# Altium footprint library SnapEDApcb.PcbLib: 1 footprints
Each footprint in its own frame and in the unit in brackets; x right, y up, seen from the top. Pads: shape width x height; smd on the part's side, far side on the other; paste and mask are expansions set on the pad; w line width, h text height; cw(c..) or ccw(c..) is an arc to the next point about the centre after c.
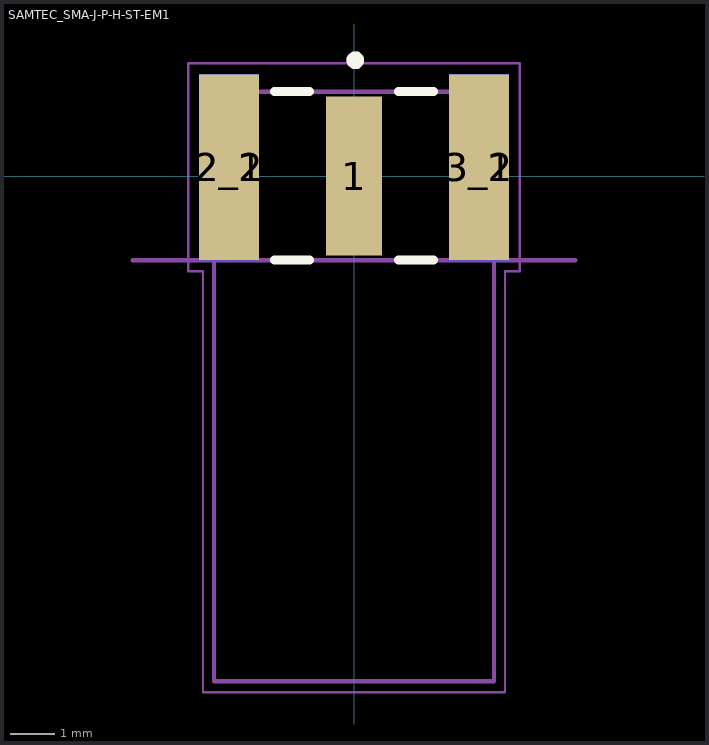
[diagram p0: the footprint, top view; thin cyan lines are the x and y axes]

## SAMTEC_SMA-J-P-H-ST-EM1 [mm]
pads (5):
  rect 1.27x3.6 smd: 1(0,0)
  rect 1.35x4.2 smd: 2_1(-2.825,0.2) 3_1(2.825,0.2)
  rect 1.35x4.2 smd far side: 2_2(-2.825,0.2) 3_2(2.825,0.2)
Top Overlay:
  circle w0.2: c0.03,2.62 r0.1
  lines w0.2: -1.8,-1.9 -1,-1.9 ; -1.8,1.91 -1,1.91 ; 1,-1.9 1.8,-1.9 ; 1,1.91 1.8,1.91
Mechanical 13:
  circle w0.2: c0.03,2.62 r0.1
  lines w0.1: -5,-1.9 -3.165,-1.9 ; 5,-1.9 3.165,-1.9 ; -3.165,-1.9 -3.175,1.91 3.175,1.91 3.165,-1.9 ; -3.165,-1.9 3.165,-1.9 ; -3.165,-1.9 -3.165,-11.42 3.165,-11.42 3.165,-1.9
  text "PCB EDGE" at 4.304,-1.702 h0.61
Mechanical 15:
  lines w0.05: -3.75,-2.15 -3.75,2.55 3.75,2.55 3.75,-2.15 3.415,-2.15 3.415,-11.67 -3.415,-11.67 -3.415,-2.15 -3.75,-2.15